# Altium footprint library Project2.PcbLib: 12 footprints
Each footprint in its own frame and in the unit in brackets; x right, y up, seen from the top. Pads: shape width x height; smd on the part's side, far side on the other; paste and mask are expansions set on the pad; w line width, h text height; cw(c..) or ccw(c..) is an arc to the next point about the centre after c.
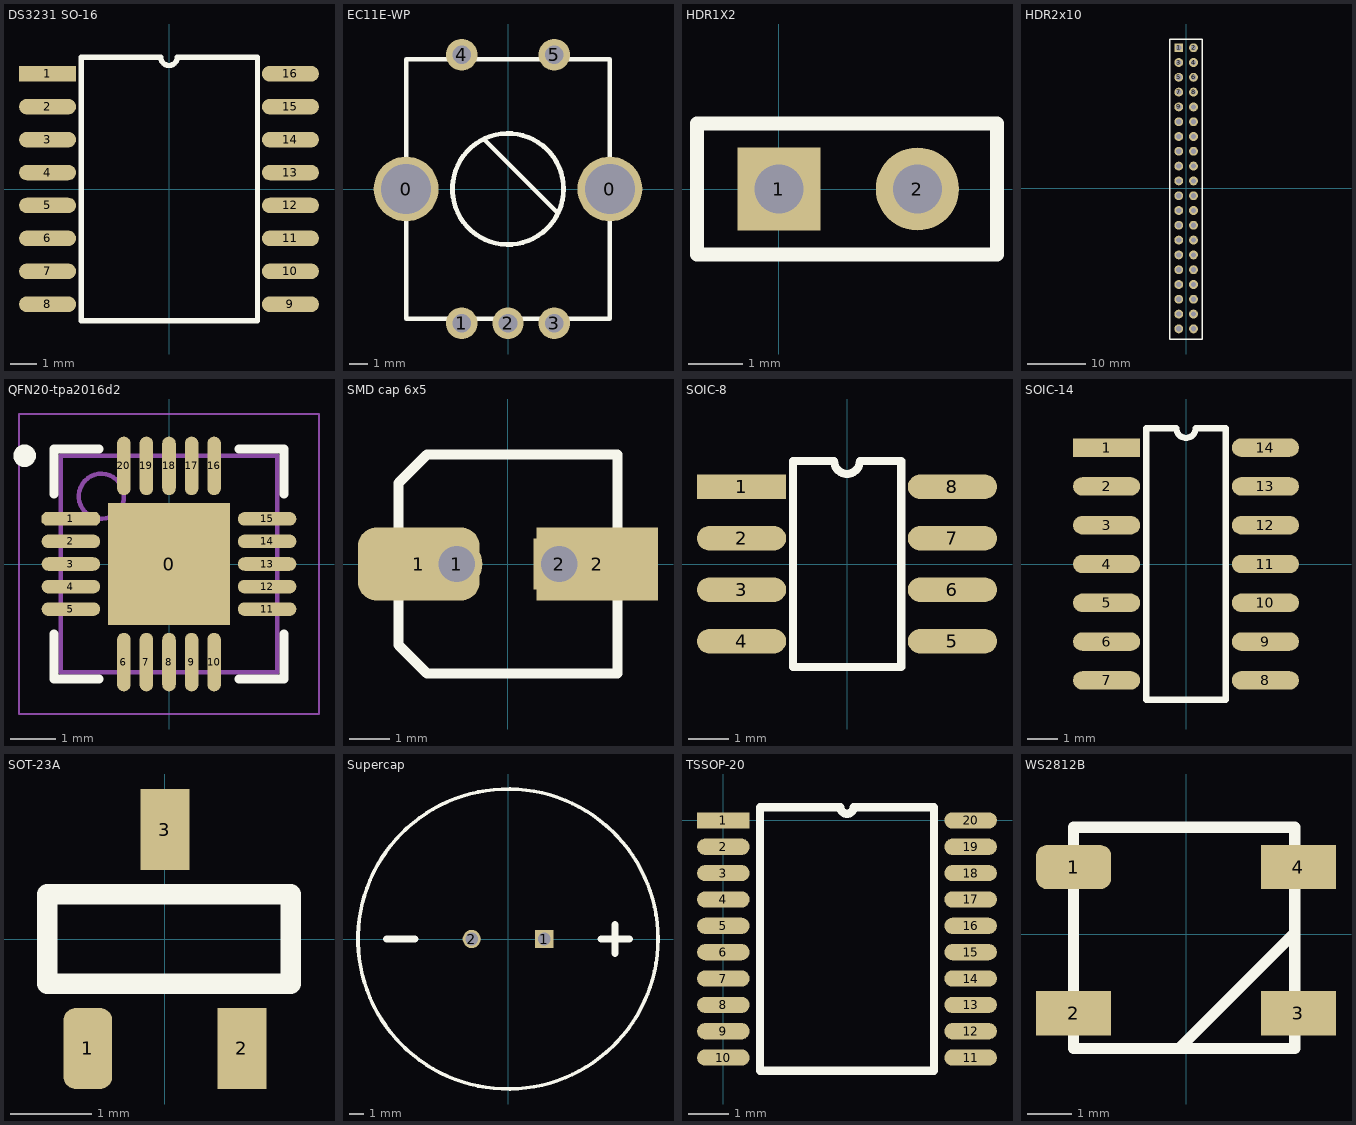
[diagram p0: the footprints below, top view; thin cyan lines are the x and y axes]

## DS3231 SO-16 [mm]
pads (16):
  rect 2.2x0.6 smd: 1(-4.685,4.445)
  oval 2.2x0.6 smd: 2(-4.685,3.175) 3(-4.685,1.905) 4(-4.685,0.635) 5(-4.685,-0.635) 6(-4.685,-1.905) 7(-4.685,-3.175) 8(-4.685,-4.445) 9(4.685,-4.445) 10(4.685,-3.175) 11(4.685,-1.905) 12(4.685,-0.635) 13(4.685,0.635) 14(4.685,1.905) 15(4.685,3.175) 16(4.685,4.445)
Top Overlay:
  lines w0.2: -3.385,-5.08 -3.385,5.08 -0.318,5.08 ccw(c0,5.08) 0.318,5.08 3.415,5.08 3.415,-5.08 -3.385,-5.08

## EC11E-WP [mm] "With push button"
pads (7):
  round 3.5 hole 2.7: 0(-5.5,0) 0(5.5,0)
  round 1.7 hole 1: 1(-2.5,-7.25) 2(0,-7.25) 3(2.5,-7.25) 4(-2.5,7.25) 5(2.5,7.25)
Top Overlay:
  circle w0.254: c0,0 r3
  lines w0.254: -1.3,2.7 2.7,-1.3 ; -5.5,-7 -5.5,0 -5.5,7 5.5,7 5.5,0 5.5,-7 -5.5,-7

## HDR1X2 [mil] "2 Pin Header"
pads (2):
  rect 60x60 hole 35.43: 1(0,0)
  round 60 hole 35.43: 2(100,0)
Top Overlay:
  lines w10: -59.06,-47.24 -59.06,47.24 157.48,47.24 157.48,-47.24 -59.06,-47.24

## HDR2x10 [mil] "20 pin Header"
pads (40):
  rect 60x60 hole 35.43: 1(-50,950)
  round 60 hole 35.43: 2(50,950) 3(-50,850) 4(50,850) 5(-50,750) 6(50,750) 7(-50,650) 8(50,650) 9(-50,550) 10(50,550) 11(-50,450) 12(50,450) 13(-50,350) 14(50,350) 15(-50,250) 16(50,250) 17(-50,150) 18(50,150) 19(-50,50) 20(50,50) 21(-50,-50) 22(50,-50) 23(-50,-150) 24(50,-150) 25(-50,-250) 26(50,-250) 27(-50,-350) 28(50,-350) 29(-50,-450) 30(50,-450) 31(-50,-550) 32(50,-550) 33(-50,-650) 34(50,-650) 35(-50,-750) 36(50,-750) 37(-50,-850) 38(50,-850) 39(-50,-950) 40(50,-950)
Top Overlay:
  lines w10: -109.06,-1018.5 107.48,-1018.5 107.48,1009.06 -109.06,1009.06 -109.06,-1018.5

## QFN20-tpa2016d2 [mm] "QFN, 20-Leads, Body 4,77x4,77mm, Pitch 0,50mm, Thermal Pad 2,70x2,70mm, IPC Low Density"
height 0.8
pads (21):
  rect 2.7x2.7 smd: 0(0,0)
  oct 1.3x0.3 smd: 1(-2.175,1)
  oval 1.3x0.3 smd: 2(-2.175,0.5) 3(-2.175,0) 4(-2.175,-0.5) 5(-2.175,-1) 11(2.175,-1) 12(2.175,-0.5) 13(2.175,0) 14(2.175,0.5) 15(2.175,1)
  oval 0.3x1.3 smd: 6(-1,-2.175) 7(-0.5,-2.175) 8(0,-2.175) 9(0.5,-2.175) 10(1,-2.175) 16(1,2.175) 17(0.5,2.175) 18(0,2.175) 19(-0.5,2.175) 20(-1,2.175)
Top Overlay:
  circle w0.25: c-3.2,2.4 r0.125
  lines w0.2: -2.55,-1.55 -2.55,-2.55 -1.55,-2.55 ; -2.55,1.55 -2.55,2.55 -1.55,2.55 ; 1.55,-2.55 2.55,-2.55 2.55,-1.55 ; 1.55,2.55 2.55,2.55 2.55,1.55
Mechanical 13:
  circle w0.1: c-1.5,1.5 r0.5
  lines w0.1: -2.4,-2.4 2.4,-2.4 2.4,2.4 -2.4,2.4 -2.4,-2.4
Mechanical 15:
  lines w0.05: -3.325,-3.325 3.325,-3.325 3.325,3.325 -3.325,3.325 -3.325,-3.325
  lines w0.1: -0.5,0 0.5,0 ; 0,-0.5 0,0.5
3D body: height 0.8, standoff 0.01, extent -2.4,-2.4 2.4,2.4

## SMD cap 6x5 [mm]
pads (4):
  rrect50% 3x1.8 smd: 1(-2.2,0)
  round 1.27 hole 0.9: 1(-1.27,0)
  rect 1.27x1.27 hole 0.9: 2(1.27,0)
  rect 3x1.8 smd: 2(2.2,0)
Top Overlay:
  lines w0.254: -2.7,-2 -2,-2.7 2.7,-2.7 2.7,2.7 -2,2.7 -2.7,2 -2.7,-2

## SOIC-8 [mm]
pads (8):
  rect 2.2x0.6 smd: 1(-2.6,1.905)
  oval 2.2x0.6 smd: 2(-2.6,0.635) 3(-2.6,-0.635) 4(-2.6,-1.905) 5(2.6,-1.905) 6(2.6,-0.635) 7(2.6,0.635) 8(2.6,1.905)
Top Overlay:
  lines w0.2: -1.33,-2.54 1.337,-2.54 1.337,2.54 0.318,2.54 cw(c0,2.54) -0.318,2.54 -1.33,2.54 -1.33,-2.54

## SOIC-14 [mm]
pads (14):
  rect 2.2x0.6 smd: 1(-2.6,3.81)
  oval 2.2x0.6 smd: 2(-2.6,2.54) 3(-2.6,1.27) 4(-2.6,0) 5(-2.6,-1.27) 6(-2.6,-2.54) 7(-2.6,-3.81) 8(2.6,-3.81) 9(2.6,-2.54) 10(2.6,-1.27) 11(2.6,0) 12(2.6,1.27) 13(2.6,2.54) 14(2.6,3.81)
Top Overlay:
  lines w0.2: -1.3,-4.445 1.3,-4.445 1.3,4.445 0.318,4.445 cw(c0,4.445) -0.318,4.445 -1.3,4.445 -1.3,-4.445

## SOT-23A [mm]
pads (3):
  rrect50% 0.6x1 smd: 1(-0.95,-1.35)
  rect 0.6x1 smd: 2(0.95,-1.35) 3(0,1.35)
Top Overlay:
  lines w0.254: -1.45,-0.55 -1.45,0.55 1.55,0.55 1.55,-0.55 -1.45,-0.55

## Supercap [mm] "Supercap"
pads (2):
  rect 1.27x1.27 hole 0.9: 1(2.54,0)
  round 1.27 hole 0.9: 2(-2.54,0)
Top Overlay:
  circle w0.254: c0,0 r10.5
  lines w0.5: -8.5,0 -6.5,0 ; 6.5,0 8.5,0 ; 7.5,-1 7.5,1

## TSSOP-20 [mm]
pads (20):
  rect 1.3x0.4 smd: 1(0,0)
  oval 1.3x0.4 smd: 2(0,-0.65) 3(0,-1.3) 4(0,-1.95) 5(0,-2.6) 6(0,-3.25) 7(0,-3.9) 8(0,-4.55) 9(0,-5.2) 10(0,-5.85) 11(6.1,-5.85) 12(6.1,-5.2) 13(6.1,-4.55) 14(6.1,-3.9) 15(6.1,-3.25) 16(6.1,-2.6) 17(6.1,-1.95) 18(6.1,-1.3) 19(6.1,-0.65) 20(6.1,0)
Top Overlay:
  lines w0.2: 0.9,-6.175 5.2,-6.175 5.2,0.325 3.212,0.325 cw(c3.05,0.325) 2.887,0.325 0.9,0.325 0.9,-6.175

## WS2812B [mm]
pads (4):
  rrect50% 1.7x1 smd: 1(-2.54,1.524)
  rect 1.7x1 smd: 2(-2.54,-1.778) 3(2.54,-1.778) 4(2.54,1.524)
Top Overlay:
  lines w0.254: -0.098,-2.518 2.44,0.019 ; -2.54,-2.576 -2.54,2.424 2.46,2.424 2.46,-2.576 -2.54,-2.576